# Altium schematic symbol library 金升阳.SchLib: 13 symbols
Pins are listed as number, name and electrical type; pins without a type are passive.

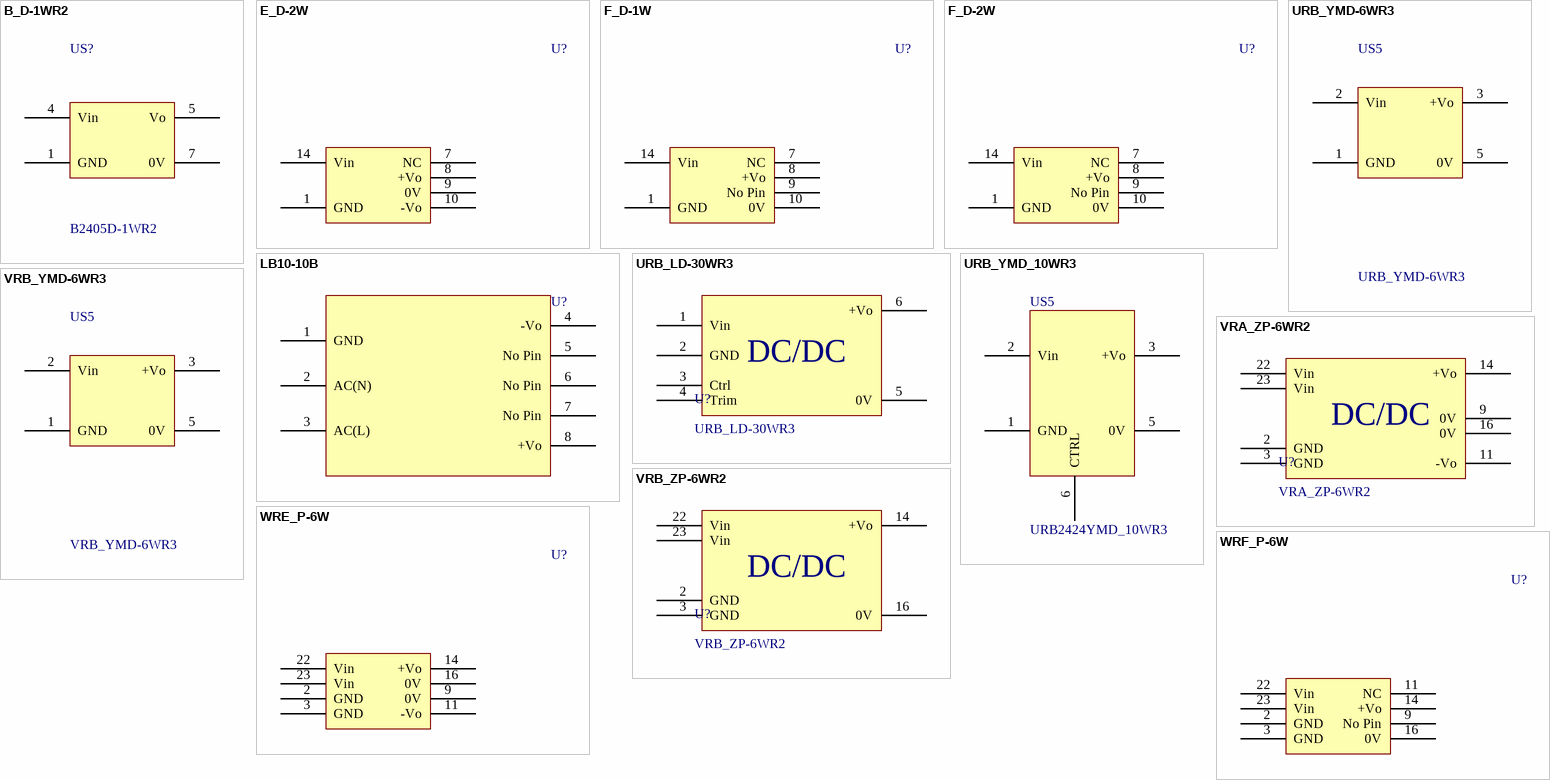
[diagram p0: symbols B_D-1WR2 to WRF_P-6W]

## B_D-1WR2
designator US?, comment B2405D-1WR2
footprint B_D-1WR2
pins: 1 GND, 4 Vin, 5 Vo, 7 0V

## E_D-2W
designator U?  (value not drawn)
footprint F_D-1W
pins: 1 GND, 7 NC, 8 +Vo, 9 0V, 10 -Vo, 14 Vin
2 alternate drawings of the same symbol

## F_D-1W
designator U?  (value not drawn)
footprint F_D-1W
pins: 1 GND, 7 NC, 8 +Vo, 9 No Pin, 10 0V, 14 Vin
2 alternate drawings of the same symbol

## F_D-2W
designator U?  (value not drawn)
footprint F_D-1W
pins: 1 GND, 7 NC, 8 +Vo, 9 No Pin, 10 0V, 14 Vin
2 alternate drawings of the same symbol

## LB10-10B
designator U?  (value not drawn)
footprint LB10-10B
pins: 1 GND, 2 AC(N), 3 AC(L), 4 -Vo, 5 No Pin, 6 No Pin, 7 No Pin, 8 +Vo
2 alternate drawings of the same symbol

## URB_LD-30WR3
designator U?
footprint URB_LD-30WR3 (URA_LD-30WR3 & URB_LD-30WR3 系列)
pins: 1 Vin, 2 GND, 3 Ctrl, 4 Trim, 5 0V, 6 +Vo
text: DC/DC

## URB_YMD-6WR3
designator US5
footprint URB_YMD-6WR3
pins: 1 GND, 2 Vin, 3 +Vo, 5 0V

## URB_YMD_10WR3
designator US5, comment URB2424YMD_10WR3
footprint URB_YMD-10WR3
pins: 1 GND, 2 Vin, 3 +Vo, 5 0V, 6 CTRL

## VRA_ZP-6WR2
designator U?
footprint VRB_ZP-6WR2
pins: 2 GND, 3 GND, 9 0V, 11 -Vo, 14 +Vo, 16 0V, 22 Vin, 23 Vin
text: DC/DC

## VRB_YMD-6WR3
designator US5
footprint VRB_YMD-6WR3
pins: 1 GND, 2 Vin, 3 +Vo, 5 0V

## VRB_ZP-6WR2
designator U?
footprint VRB_ZP-6WR2
pins: 2 GND, 3 GND, 14 +Vo, 16 0V, 22 Vin, 23 Vin
text: DC/DC

## WRE_P-6W
designator U?  (value not drawn)
footprint WRF_P-6W
pins: 2 GND, 3 GND, 9 0V, 11 -Vo, 14 +Vo, 16 0V, 22 Vin, 23 Vin
2 alternate drawings of the same symbol

## WRF_P-6W
designator U?  (value not drawn)
footprint WRF_P-6W
pins: 2 GND, 3 GND, 9 No Pin, 11 NC, 14 +Vo, 16 0V, 22 Vin, 23 Vin
2 alternate drawings of the same symbol